# EAGLE library part INA225 (library X893)
INA225 INA225 <http://www.ti.com/lit/ds/symlink/ina225.pdf>
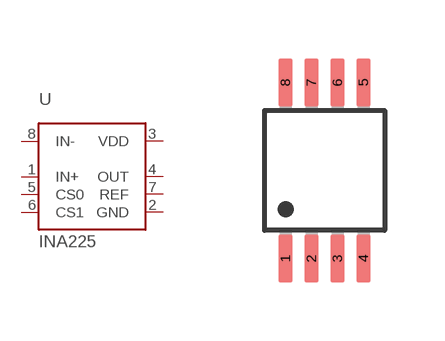
[diagram p238: symbol with the pads of MSOP8; footprint MSOP8]

Designator prefix U

## INA225  [MSOP8]
1  IN+  pas
2  GND  pwr
3  VDD  pwr
4  OUT  pas
5  CS0  in
6  CS1  in
7  REF  pas
8  IN-  pas

## Footprint MSOP8 (pad centres in mm)
smd 0.35 x 1.2: 1 -0.975,-2.2; 2 -0.325,-2.2; 3 0.325,-2.2; 4 0.975,-2.2; 5 0.975,2.2; 6 0.325,2.2; 7 -0.325,2.2; 8 -0.975,2.2